# EAGLE library part CAY16-J4 (library r_shunt)
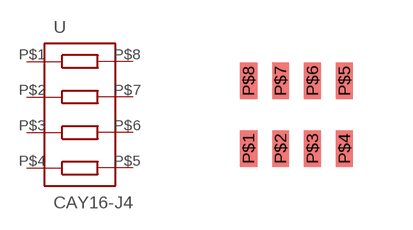
[diagram p0: symbol with the pads of CAY16-J4; footprint CAY16-J4]

Designator prefix -

## CAY16-J4  [CAY16-J4]
P$1  1A  pas
P$2  2A  pas
P$3  3A  pas
P$4  4A  pas
P$5  4B  pas
P$6  3B  pas
P$7  2B  pas
P$8  1B  pas

## Footprint CAY16-J4 (pad centres in mm)
smd 0.425 x 0.9: P$1 -1.2,-0.85; P$2 -0.4,-0.85; P$3 0.4,-0.85; P$4 1.2,-0.85; P$5 1.2,0.85; P$6 0.4,0.85; P$7 -0.4,0.85; P$8 -1.2,0.85